# Altium footprint library Capacitor - Electrolytic.PcbLib: 177 footprints (part 3 of 12)
Each footprint in its own frame and in the unit in brackets; x right, y up, seen from the top. Pads: shape width x height; smd on the part's side, far side on the other; paste and mask are expansions set on the pad; w line width, h text height; cw(c..) or ccw(c..) is an arc to the next point about the centre after c.
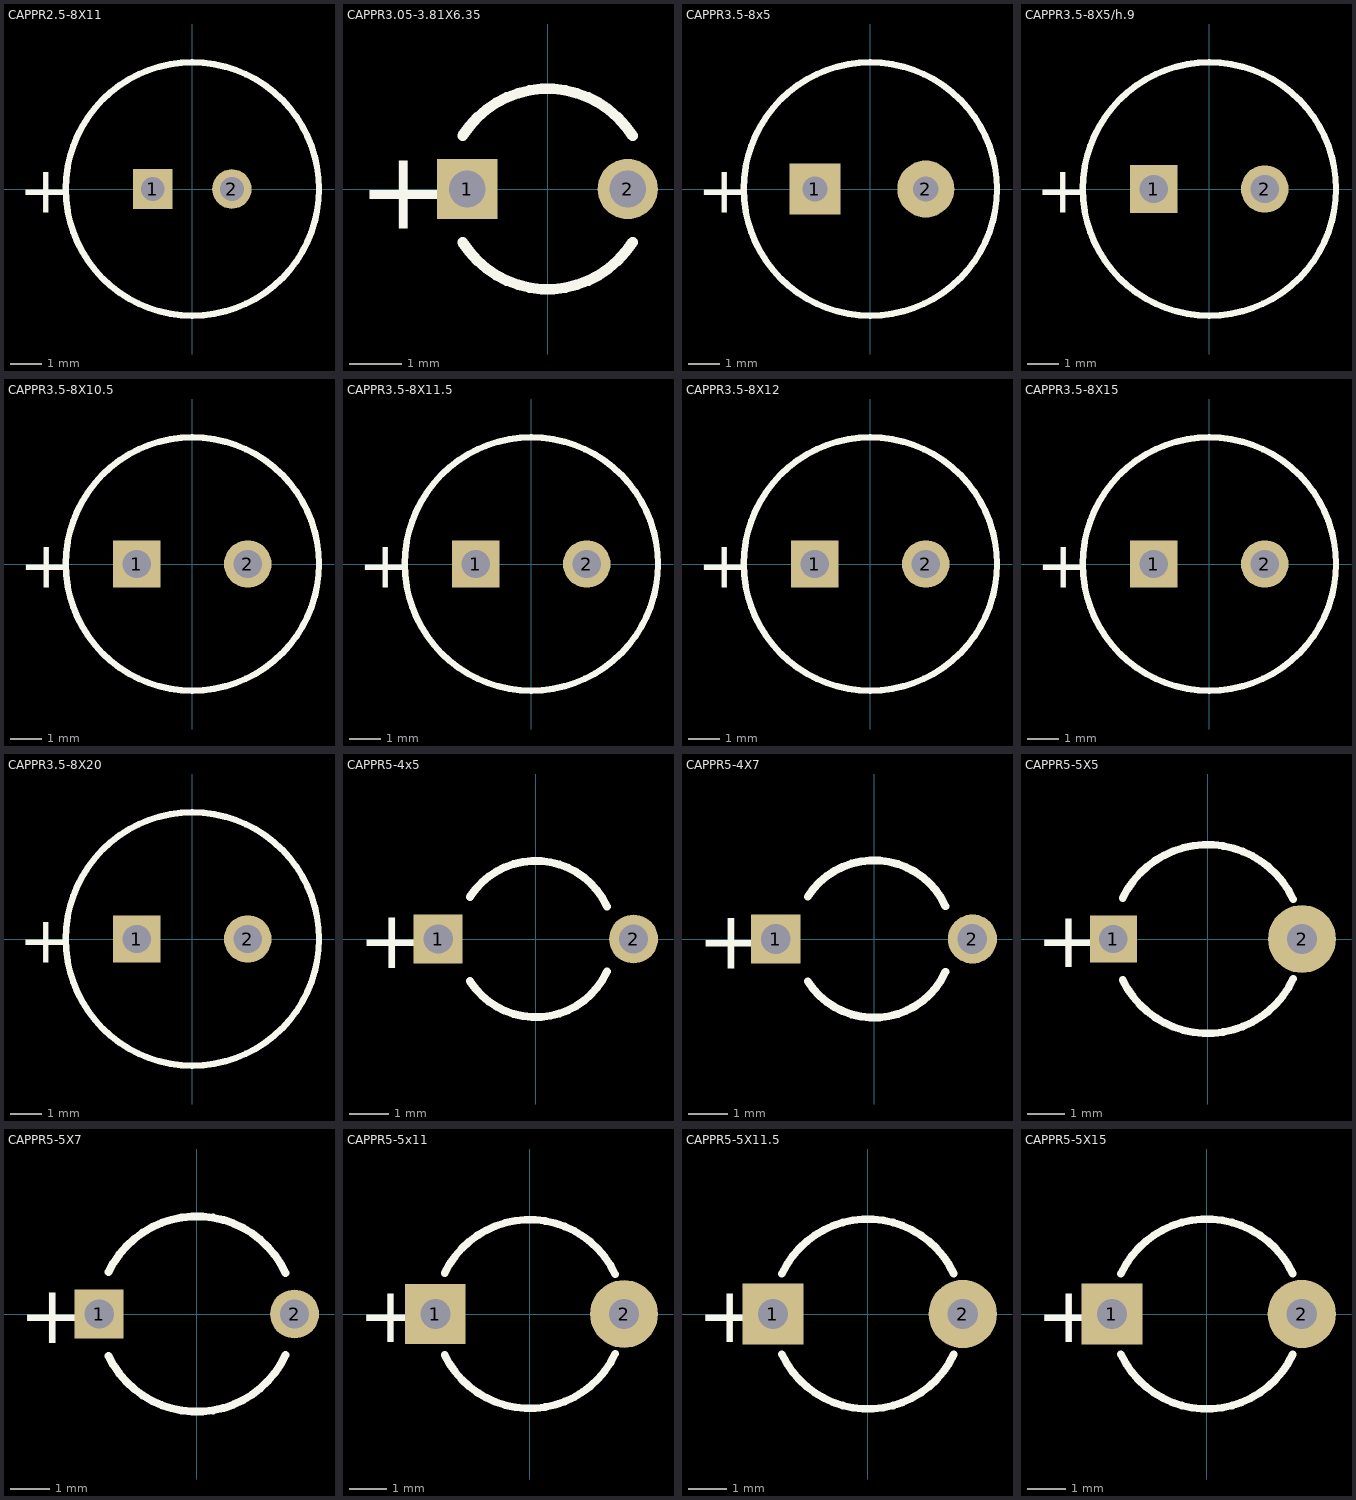
[diagram p2: the footprints below, top view; thin cyan lines are the x and y axes]

## CAPPR2.5-8X11 [mm]
pads (2):
  rect 1.25x1.25 hole 0.75: 1(-1.25,0)
  round 1.25 hole 0.75: 2(1.25,0)
Top Overlay:
  circle w0.2: c0,0 r4
  text "+" at -5.475,-0.75 h1.5
3D body: height 11, standoff -2, extent -4,-3.992 4,3.992

## CAPPR3.05-3.81X6.35 [mm]
pads (2):
  rect 1.15x1.15 hole 0.7: 1(-1.525,0)
  round 1.15 hole 0.7: 2(1.525,0)
Top Overlay:
  lines w0.2: -1.616,-1.009 ccw(c0,0) 1.616,-1.009 ; -1.616,1.009 cw(c0,0) 1.616,1.009
  text "+" at -3.603,-0.753 h1.5
3D body: height 6.35, standoff 0.5, extent -1.993,-1.993 1.993,1.993

## CAPPR3.5-8x5 [mm]
pads (2):
  rect 1.6x1.6 hole 0.8: 1(-1.75,0)
  round 1.8 hole 0.8: 2(1.75,0)
Top Overlay:
  circle w0.2: c0,0 r4
  text "+" at -5.475,-0.75 h1.5
3D body: height 5, standoff 0.3, extent -4.054,-4.054 4.054,4.054

## CAPPR3.5-8X5/h.9 [mm]
pads (2):
  rect 1.5x1.51 hole 0.9: 1(-1.75,0)
  round 1.5 hole 0.9: 2(1.75,0)
Top Overlay:
  circle w0.2: c0,0 r4
  text "+" at -5.475,-0.75 h1.5
3D body: height 9, standoff 0.3, extent -4.054,-4.054 4.054,4.054

## CAPPR3.5-8X10.5 [mm]
pads (2):
  rect 1.5x1.5 hole 0.9: 1(-1.75,0)
  round 1.5 hole 0.9: 2(1.75,0)
Top Overlay:
  circle w0.2: c0,0 r4
  text "+" at -5.475,-0.75 h1.5
3D body: height 10.5, standoff 0.3, extent -4.054,-4.054 4.054,4.054

## CAPPR3.5-8X11.5 [mm]
pads (2):
  rect 1.5x1.5 hole 0.9: 1(-1.75,0)
  round 1.5 hole 0.9: 2(1.75,0)
Top Overlay:
  circle w0.2: c0,0 r4
  text "+" at -5.475,-0.75 h1.5
3D body: height 11.5, standoff 0.3, extent -4.054,-4.054 4.054,4.054

## CAPPR3.5-8X12 [mm]
pads (2):
  rect 1.5x1.5 hole 0.9: 1(-1.75,0)
  round 1.5 hole 0.9: 2(1.75,0)
Top Overlay:
  circle w0.2: c0,0 r4
  text "+" at -5.475,-0.75 h1.5
3D body: height 12, standoff 0.3, extent -4.054,-4.054 4.054,4.054

## CAPPR3.5-8X15 [mm]
pads (2):
  rect 1.5x1.5 hole 0.9: 1(-1.75,0)
  round 1.5 hole 0.9: 2(1.75,0)
Top Overlay:
  circle w0.2: c0,0 r4
  text "+" at -5.475,-0.75 h1.5
3D body: height 15, standoff 0.3, extent -4.054,-4.181 4.054,3.927

## CAPPR3.5-8X20 [mm]
pads (2):
  rect 1.5x1.5 hole 0.9: 1(-1.75,0)
  round 1.5 hole 0.9: 2(1.75,0)
Top Overlay:
  circle w0.2: c0,0 r4
  text "+" at -5.475,-0.75 h1.5
3D body: height 20, standoff 0.3, extent -4.054,-4.054 4.054,4.054

## CAPPR5-4x5 [mm]
pads (2):
  rect 1.25x1.25 hole 0.75: 1(-2.5,0)
  round 1.25 hole 0.75: 2(2.5,0)
Top Overlay:
  lines w0.2: -1.687,-1.075 ccw(c0,0) 1.819,-0.832 ; -1.687,1.075 cw(c0,0) 1.819,0.832
  text "+" at -4.55,-0.75 h1.5
3D body: height 5, standoff 0.2, extent -2.077,-2.077 2.077,2.077

## CAPPR5-4X7 [mm]
pads (2):
  rect 1.25x1.25 hole 0.75: 1(-2.5,0)
  round 1.25 hole 0.75: 2(2.5,0)
Top Overlay:
  lines w0.2: -1.687,-1.075 ccw(c0,0) 1.819,-0.832 ; -1.687,1.075 cw(c0,0) 1.819,0.832
  text "+" at -4.5,-0.75 h1.5
3D body: height 7, standoff 0.2, extent -2.077,-2.077 2.077,2.077

## CAPPR5-5X5 [mm]
pads (2):
  rect 1.25x1.25 hole 0.75: 1(-2.5,0)
  round 1.8 hole 0.8: 2(2.5,0)
Top Overlay:
  lines w0.2: -2.257,-1.075 ccw(c0,0) 2.269,-1.05 ; -2.257,1.075 cw(c0,0) 2.269,1.05
  text "+" at -4.55,-0.75 h1.5
3D body: height 5, standoff 0.2, extent -2.477,-2.477 2.477,2.477

## CAPPR5-5X7 [mm]
pads (2):
  rect 1.25x1.25 hole 0.75: 1(-2.5,0)
  round 1.25 hole 0.75: 2(2.5,0)
Top Overlay:
  lines w0.2: -2.257,-1.075 ccw(c0,0) 2.269,-1.05 ; -2.257,1.075 cw(c0,0) 2.269,1.05
  text "+" at -4.55,-0.75 h1.5
3D body: height 7, standoff 0.2, extent -2.477,-2.477 2.477,2.477

## CAPPR5-5x11 [mm]
pads (2):
  rect 1.6x1.6 hole 0.8: 1(-2.5,0)
  round 1.8 hole 0.8: 2(2.5,0)
Top Overlay:
  lines w0.2: -2.257,-1.075 ccw(c0,0) 2.269,-1.05 ; -2.257,1.075 cw(c0,0) 2.269,1.05
  text "+" at -4.55,-0.75 h1.5
3D body: height 11, standoff 0.2, extent -2.477,-2.477 2.477,2.477

## CAPPR5-5X11.5 [mm]
pads (2):
  rect 1.6x1.6 hole 0.8: 1(-2.5,0)
  round 1.8 hole 0.8: 2(2.5,0)
Top Overlay:
  lines w0.2: -2.266,-1.057 ccw(c0,0) 2.266,-1.057 ; -2.266,1.057 cw(c0,0) 2.266,1.057
  text "+" at -4.5,-0.75 h1.5
3D body: height 11.5, standoff 0.2, extent -2.477,-2.477 2.477,2.477

## CAPPR5-5X15 [mm]
pads (2):
  rect 1.6x1.6 hole 0.8: 1(-2.5,0)
  round 1.8 hole 0.8: 2(2.5,0)
Top Overlay:
  lines w0.2: -2.266,-1.057 ccw(c0,0) 2.266,-1.057 ; -2.266,1.057 cw(c0,0) 2.266,1.057
  text "+" at -4.5,-0.75 h1.5
3D body: height 15, standoff 0.2, extent -2.477,-2.477 2.477,2.477